# EAGLE library part MC3* (library TI)
1.5A Buck/Boost/Inverting Switching regulator
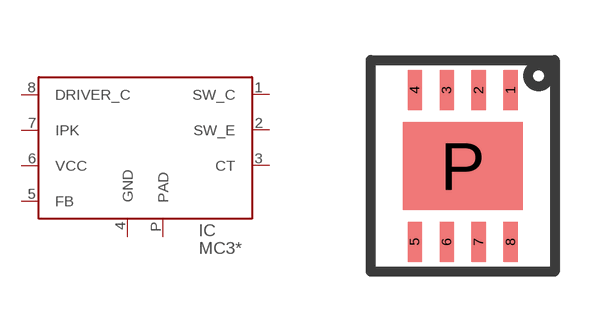
[diagram p11: symbol with the pads of QFN8-.8PITCH; footprint QFN8-.8PITCH]

Designator prefix IC

## MC3DRJ, MC33063ADRJ, MC34063ADRJ  [QFN8-.8PITCH]
1  SW_C
2  SW_E
3  CT
4  GND  pwr
5  FB  in
6  VCC  pwr
7  IPK  in
8  DRIVER_C  in
P  PAD

## Footprint QFN8-.8PITCH (pad centres in mm)
smd 0.35 x 1: 1 1.2,1.9; 2 0.4,1.9; 3 -0.4,1.9; 4 -1.2,1.9; 5 -1.2,-1.9; 6 -0.4,-1.9; 7 0.4,-1.9; 8 1.2,-1.9
smd 3 x 2.2: P 0,0